# Altium footprint library USB1055-GF-L-A.PcbLib: 1 footprints
Each footprint in its own frame and in the unit in brackets; x right, y up, seen from the top. Pads: shape width x height; smd on the part's side, far side on the other; paste and mask are expansions set on the pad; w line width, h text height; cw(c..) or ccw(c..) is an arc to the next point about the centre after c.
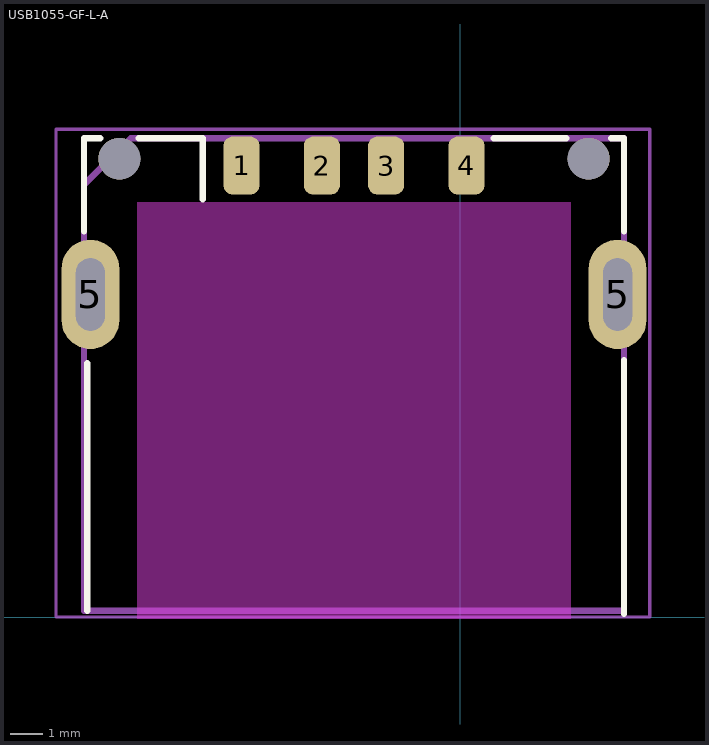
[diagram p0: the footprint, top view; thin cyan lines are the x and y axes]

## USB1055-GF-L-A [mm]
pads (8):
  rrect50% 1.12x1.8 smd mask+0: 1(-6.8,14.05) 2(-4.3,14.05) 3(-2.3,14.05) 4(0.2,14.05)
  oval 1.8x3.4 hole 0.9 slot 2.26 at 90 deg mask+0: 5(-11.5,10.04) 5(4.9,10.04)
  round 1.3 hole 1.3 unplated mask+0: ""(-10.6,14.26) ""(4,14.26)
Top Overlay:
  lines w0.2: -11.7,12 -11.7,14.9 -11.2,14.9 ; -11.6,0.2 -11.6,7.9 ; -10,14.9 -8,14.9 -8,13 ; 1.05,14.9 3.3,14.9 ; 4.7,14.9 5.1,14.9 5.1,12 ; 5.1,0.1 5.1,8
Top Paste:
  region: -12.4,10.85 -12.4,10.938 -12.366,11.11 -12.299,11.272 -12.201,11.417 -12.077,11.541 -11.932,11.639 -11.77,11.706 -11.598,11.74 -11.51,11.74 -11.42,11.74 -11.245,11.705 -11.079,11.636 -10.93,11.537 -10.803,11.41 -10.704,11.261 -10.635,11.095 -10.6,10.92 -10.6,10.83 -10.6,9.24 -10.6,9.151 -10.635,8.977 -10.702,8.814 -10.801,8.666 -10.926,8.541 -11.074,8.442 -11.237,8.375 -11.411,8.34 -11.5,8.34 -11.589,8.34 -11.763,8.375 -11.926,8.442 -12.074,8.541 -12.199,8.666 -12.298,8.814 -12.365,8.977 -12.4,9.151 -12.4,9.24
  region: 4,10.85 4,10.938 4.034,11.11 4.101,11.272 4.199,11.417 4.323,11.541 4.468,11.639 4.63,11.706 4.802,11.74 4.89,11.74 4.98,11.74 5.155,11.705 5.321,11.636 5.47,11.537 5.597,11.41 5.696,11.261 5.765,11.095 5.8,10.92 5.8,10.83 5.8,9.24 5.8,9.151 5.765,8.977 5.698,8.814 5.599,8.666 5.474,8.541 5.326,8.442 5.163,8.375 4.989,8.34 4.9,8.34 4.811,8.34 4.637,8.375 4.474,8.442 4.326,8.541 4.201,8.666 4.102,8.814 4.035,8.977 4,9.151 4,9.24
Keep-Out Layer:
  board cut-out: -10.05,12.9 3.45,12.9 3.45,-0.05 -10.05,-0.05
Mechanical 3 (Mech3):
  lines w0.2: -11.7,0.2 -11.1,0.2 5.1,0.2 5.1,14.9 -10.25,14.9 -11.7,13.45 -11.7,0.2
Mechanical 9:
  lines w0.05: -11.7,0 5.1,0
Mechanical 7:
  lines w0.1: -11.9,0 5.4,0 5.9,0 5.9,15.177 4,15.177 -12.571,15.177 -12.571,10.5 -12.571,0 -11.5,0
Mechanical 9 (Mech9):
  text "'.Designator'" at -10.973,2.856 h1.02
3D body "USB1055-15-L-A.stp": height 2.96, standoff -4.16, extent -11.65,-1.21 5.05,14.87
3D body: height 2.24, standoff -3.8, extent -12.571,0 5.9,15.177